# EAGLE library part 74LVC1T45FW4-7 (library 74LVC1T45FW4-7)
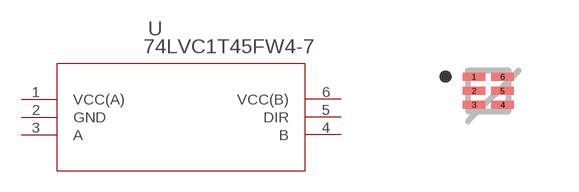
[diagram p0: symbol with the pads of X2-DFN1010-6; footprint X2-DFN1010-6]

Designator prefix U

## 74LVC1T45FW4-7 (MANUFACTURER_PART_NUMBER: 74LVC1T45FW47; VENDOR: Diodes Inc)  [X2-DFN1010-6]
1  VCC(A)  pwr
2  GND  pwr
3  A
4  B
5  DIR  pas
6  VCC(B)  pwr

## Footprint X2-DFN1010-6 (pad centres in mm)
smd 0.559 x 0.203: 1 -0.356,0.35; 2 -0.356,0; 3 -0.356,-0.35; 4 0.356,-0.35; 5 0.356,0; 6 0.356,0.35